# Altium schematic symbol library 2024-02-02_16-16-25.SchLib: 1 symbol
Pins are listed as number, name and electrical type; pins without a type are passive.

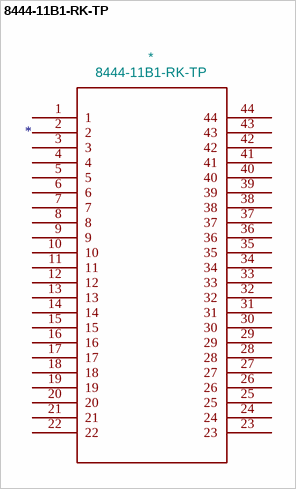
[diagram p0: symbol 8444-11B1-RK-TP]

## 8444-11B1-RK-TP
designator *  value 8444-11B1-RK-TP
ki_fp_filters: TO_11B1-RK-TP_3MM; Footprint: TO_11B1-RK-TP_3MM; Supplier: 8444-11B1-RK-TP; ki_keywords: 8444-11B1-RK-TP
footprint TO_11B1-RK-TP_3MM
pins: 1, 2, 3, 4, 5, 6, 7, 8, 9, 10, 11, 12, 13, 14, 15, 16, 17, 18, 19, 20, 21, 22, 23, 24, 25, 26, 27, 28, 29, 30, 31, 32, 33, 34, 35, 36, 37, 38, 39, 40, 41, 42, 43, 44